# Altium schematic symbol library CAP 0402 50V.SchLib: 1 symbol
Pins are listed as number, name and electrical type; pins without a type are passive.

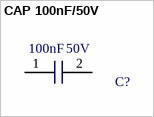
[diagram p0: symbol CAP 100nF/50V]

## CAP 100nF/50V
designator C?  Capacitance: 100nF  Voltage: 50V  (hidden comment: CAP 100nF/50V)
0.1µF ±10% 50V Ceramic Capacitor X5R 0402 (1005 Metric); Manufacturer 1: Yageo; Manufacturer 1 PN: CC0402KRX5R9BB104; Digikey PN: 311-3342-1-ND; ComponentLink1Description: Datasheet; ComponentLink1URL: https://search.murata.co.jp/Ceramy/image/img/A01X/G101/ENG/GRM022R60J103KE19-01.pdf
footprint CAP 100nF/50V (0.1µF ±10% 50V Ceramic Capacitor X5R 0402 (1005 Metric))
pins: 1, 2